# EAGLE library part P012 (library byvac-p012)
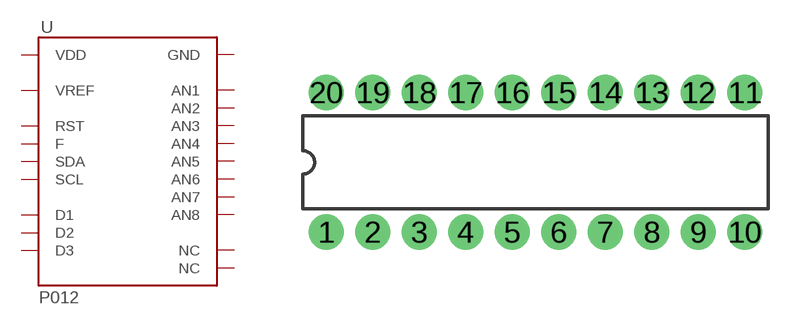
[diagram p0: symbol with the pads of DIL20; footprint DIL20]

Designator prefix U

## P012PTH  [DIL20]
1  VDD  pwr
2  D1  out
3  AN1  in
4  RST  in
5  D3  out
6  D2  out
7  AN2  in
8  AN3  in
9  F  in
10  NC  nc
11  SCL  in
12  NC  nc
13  SDA  in
14  AN4  in
15  AN5  in
16  AN6  in
17  AN7  in
18  VREF  in
19  AN8  in
20  GND  pwr

## Footprint DIL20 (pad centres in mm)
drill 1.016 pad 1.93: 1 -11.43,-3.81; 2 -8.89,-3.81; 3 -6.35,-3.81; 4 -3.81,-3.81; 5 -1.27,-3.81; 6 1.27,-3.81; 7 3.81,-3.81; 8 6.35,-3.81; 9 8.89,-3.81; 10 11.43,-3.81; 11 11.43,3.81; 12 8.89,3.81; 13 6.35,3.81; 14 3.81,3.81; 15 1.27,3.81; 16 -1.27,3.81; 17 -3.81,3.81; 18 -6.35,3.81; 19 -8.89,3.81; 20 -11.43,3.81